# EAGLE library part SDCARD (library SDcard)
SDcard holder without card detect and write protect pins
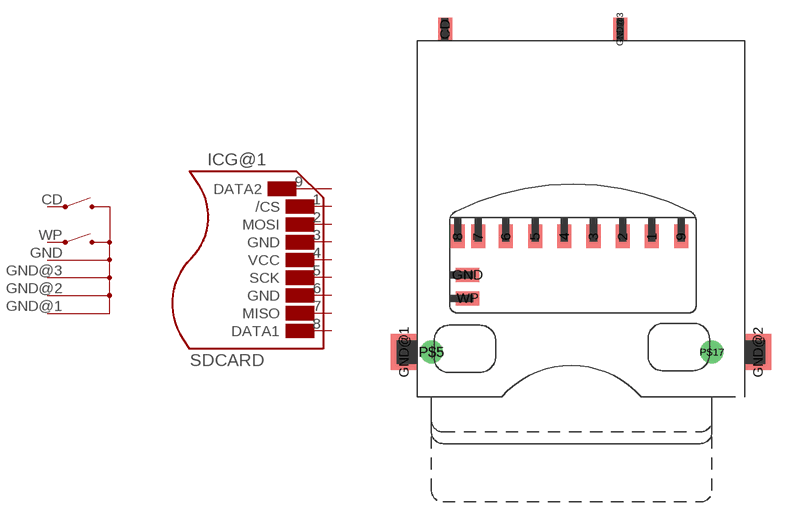
[diagram p0: symbol with the pads of 104G-TAA0-R; footprint 104G-TAA0-R]

Designator prefix IC; gates G@1=SDCARD G$2=WP_CIRCUIT

## SDCARD_104G-TAA0-R  [104G-TAA0-R]
1  G@1:/CS  in
2  G@1:MOSI  in
3  G@1:GND  pwr
4  G@1:VCC  pwr
5  G@1:SCK  in
6  G@1:GND  pwr
7  G@1:MISO  out
8  G@1:DATA1  out
9  G@1:DATA2  out
CD  G$2:CD  pas
GND  G$2:GND  pas
GND@1  G$2:SHIELD  pas
GND@2  G$2:SHIELD  pas
GND@3  G$2:SHIELD  pas
WP  G$2:WP  pas

## Footprint 104G-TAA0-R (pad centres in mm)
smd 1.2 x 2: 1 6.87,9.9; 2 4.37,9.9; 3 1.87,9.9; 4 -0.63,9.9; 5 -3.13,9.9; 6 -5.63,9.9; 7 -8,9.9; 8 -9.75,9.9; 9 9.37,9.9; CD -10.83,27.65; GND@3 4.15,27.65
smd 2 x 1.2: GND -8.9,6.6; WP -8.9,4.6
smd 2.3 x 3.1: GND@1 -14.35,0; GND@2 15.95,0
drill 1.3 pad 1.305 round: P$5 -12,0; P$17 12,0